# Altium footprint library Altium-INDUC.PcbLib: 28 footprints (part 2 of 2)
Each footprint in its own frame and in the unit in brackets; x right, y up, seen from the top. Pads: shape width x height; smd on the part's side, far side on the other; paste and mask are expansions set on the pad; w line width, h text height; cw(c..) or ccw(c..) is an arc to the next point about the centre after c.
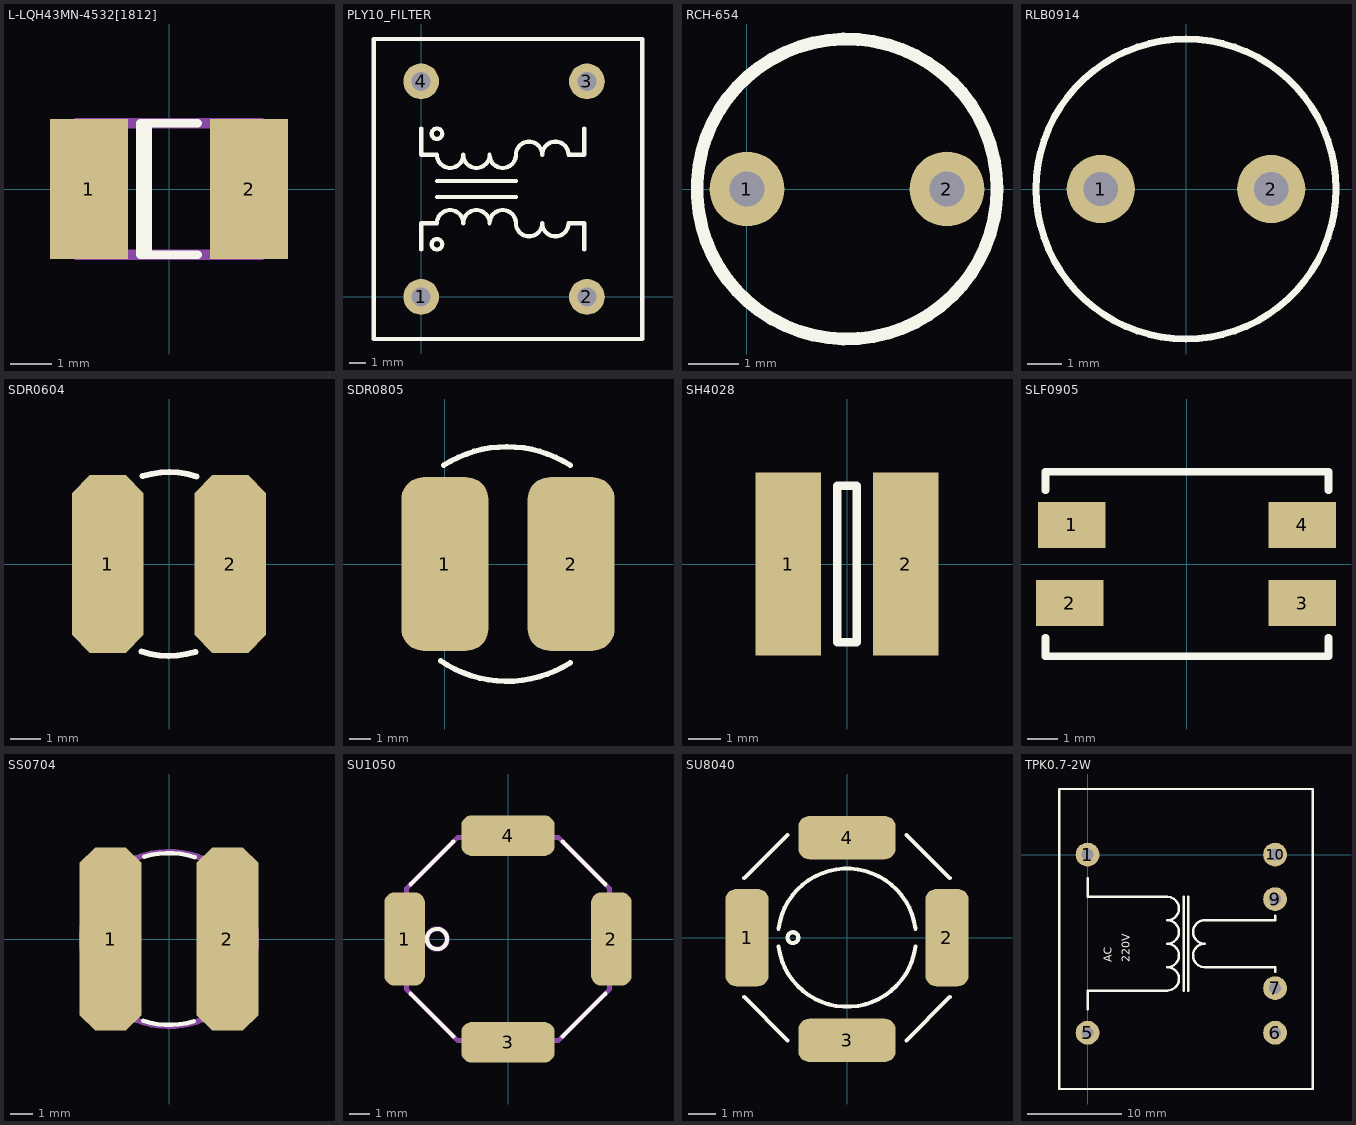
[diagram p1: the footprints below, top view; thin cyan lines are the x and y axes]

## L-LQH43MN-4532[1812] [mm]
height 2.8
pads (2):
  rect 1.9x3.4 smd: 1(-1.95,0) 2(1.95,0)
Top Overlay:
  lines w0.2: -0.51,-1.6 -0.51,1.6 ; 0.7,-1.6 -0.7,-1.6 -0.7,1.6 0.7,1.6
Mechanical 13:
  lines w0.254: -2.25,-1.6 -2.25,1.6 2.25,1.6 2.25,-1.6 -2.25,-1.6
  text ".Designator" at -2.125,2.6 h2
3D body: height 1.5, standoff 0, extent -2.25,-1.6 2.25,1.6

## PLY10_FILTER [mil]
height 688.98
pads (4):
  round 85 hole 45: 1(0,0) 2(393.7,0) 3(393.7,511.81) 4(0,511.81)
Top Overlay:
  lines w10: 0,112.5 0,175 37.5,175 cw(c68.75,175) 100,175 cw(c131.25,175) 162.5,175 cw(c193.75,175) 225,175 ccw(c256.25,175) 287.5,175 ccw(c318.75,175) 350,175 387.5,175 387.5,112.5 ; 0,400 0,337.5 37.5,337.5 ccw(c68.75,337.5) 100,337.5 ccw(c131.25,337.5) 162.5,337.5 ccw(c193.75,337.5) 225,337.5 cw(c256.25,337.5) 287.5,337.5 cw(c318.75,337.5) 350,337.5 387.5,337.5 387.5,400 ; 37.5,237.5 225,237.5 ; 37.5,275 225,275 ; -112.5,-100 -112.5,612.5 525,612.5 525,-100 -112.5,-100 ; 25,125 ccw(c37.5,125) 50,125 ccw(c37.5,125) 25,125 ; 25,387.5 ccw(c37.5,387.5) 50,387.5 ccw(c37.5,387.5) 25,387.5
3D body: height 688.98, standoff 0, extent -117.5,-105 530,617.5

## RCH-654 [mm] "DIP power inductor"
pads (2):
  round 1.5 hole 0.7: 1(0,0) 2(4,0)
Top Overlay:
  circle w0.254: c2,0 r3
3D body: height 5.1, standoff 0.1, extent -1,-3 4.976,2.988

## RLB0914 [mm] "dip radial inductor"
pads (2):
  round 2 hole 1 unplated: 1(-2.5,0) 2(2.5,0)
Top Overlay:
  circle w0.2: c0,0 r4.4
3D body: height 12, standoff 0, extent -4.371,-4.442 4.394,4.341

## SDR0604 [mm]
height 4.5
pads (2):
  oct 2.35x5.8 smd: 1(-2,0) 2(2,0)
Top Overlay:
  lines w0.2: -0.895,-2.863 ccw(c0.002,0) 0.859,-2.875 ; -0.859,2.875 cw(c-0.002,0) 0.895,2.863
3D body: height 4.5, standoff 0, extent -2.778,-2.794 2.8,2.794

## SDR0805 [mm]
height 5
pads (2):
  rrect50% 4x8 smd: 1(0,0) 2(5.81,0)
Top Overlay:
  lines w0.254: -0.2,-4.448 ccw(c2.857,0) 5.773,-4.542 ; -0.058,4.542 cw(c2.857,0) 5.773,4.542
3D body: height 5, standoff 0, extent -1.45,-3.85 7.35,3.85

## SH4028 [mm] "SHIELDED SMD  POWER INDUCTOR"
height 2.8
pads (2):
  rect 2x5.6 smd: 1(-1.8,0) 2(1.8,0)
Top Overlay:
  lines w0.254: -0.3,-2.4 0.3,-2.4 0.3,2.4 -0.3,2.4 -0.3,-2.4
3D body: height 2.8, standoff 0, extent -2.4,-2.4 2.4,2.4

## SLF0905 [mm]
height 5
pads (4):
  rect 2.2x1.5 smd: 1(-3.746,1.27) 2(-3.81,-1.27) 3(3.746,-1.27) 4(3.746,1.27)
Top Overlay:
  lines w0.254: -4.6,-2.4 -4.6,-3 4.6,-3 4.6,-2.4 ; -4.6,2.4 -4.6,3 4.6,3 4.6,2.4
3D body: height 5, standoff 0, extent -4.6,-3 4.6,3

## SS0704 [mm]
height 4
pads (2):
  oct 2.7x8 smd: 1(-2.55,0) 2(2.55,0)
Top Overlay:
  lines w0.2: -1.119,-3.578 ccw(c0.002,0) 1.073,-3.594 ; -1.073,3.594 cw(c-0.002,0) 1.119,3.578
Mechanical 13:
  circle w0.254: c0,0 r3.808
  text ".Designator" at -2.375,5.1 h2
3D body: height 4, standoff 0, extent -3.77,-3.793 3.8,3.793

## SU1050 [mm]
height 4.8
pads (4):
  rrect50% 2x4.6 smd: 1(-5.1,0) 2(5.1,0)
  rrect50% 4.6x2 smd: 3(0,-5.1) 4(0,5.1)
Top Overlay:
  circle w0.2: c-3.5,0 r0.5
  lines w0.2: -4.8,-2.7 -2.7,-4.8 ; -4.8,2.7 -2.7,4.8 ; 2.7,-4.8 4.8,-2.7 ; 2.7,4.8 4.8,2.7
Mechanical 13:
  circle w0.254: c-3.5,0 r0.5
  lines w0.254: -5,-2.5 -2.5,-5 2.5,-5 5,-2.5 5,2.5 2.5,5 -2.5,5 -5,2.5 -5,-2.5
  text ".Designator" at -3,7.25 h2
3D body: height 4.8, standoff 0, extent -5,-5 5,5

## SU8040 [mm]
height 3.8
pads (4):
  rrect50% 1.6x3.6 smd: 1(-3.7,0) 2(3.7,0)
  rrect50% 3.6x1.6 smd: 3(0,-3.8) 4(0,3.7)
Top Overlay:
  lines w0.152: -3.8,-2.2 -2.2,-3.8 ; -3.8,2.2 -2.2,3.8 ; -2.535,-0.329 ccw(c0,0) 2.535,-0.329 ; -2.535,0.329 cw(c0,0) 2.535,0.329 ; 2.2,-3.8 3.8,-2.2 ; 2.2,3.8 3.8,2.2 ; -2.2,0 ccw(c-2,0) -1.8,0 ccw(c-2,0) -2.2,0
3D body: height 3.8, standoff 0, extent -4,-4 4,4

## TPK0.7-2W [mm]
height 21
pads (6):
  round 2.54 hole 1.27: 1(0,0) 5(0,-19) 6(20,-19) 7(20,-14.25) 9(20,-4.75) 10(20,0)
Top Overlay:
  lines w0.254: 0,-16.5 0,-14.5 8.5,-14.5 ccw(c8.5,-13.25) 8.5,-12 ccw(c8.5,-10.75) 8.5,-9.5 ccw(c8.5,-8.25) 8.5,-7 ccw(c8.5,-5.75) 8.5,-4.5 0,-4.5 0,-2.5 ; 10.25,-14.5 10.25,-4.5 ; 10.75,-14.5 10.75,-4.5 ; 20,-12.5 20,-12 12.5,-12 cw(c12.5,-10.75) 12.5,-9.5 cw(c12.5,-8.25) 12.5,-7 20,-7 20,-6.5 ; -3,-25 -3,7 24,7 24,-25 -3,-25
  text "AC" at 2.59,-11.5 h0.87
  text "220V" at 4.5,-11.5 h0.87